# EAGLE library part HSS_PINS (library MISC)
Requires 8 x
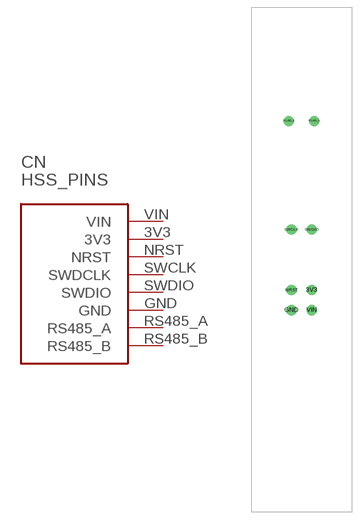
[diagram p9: symbol with the pads of HSS_PINS; footprint HSS_PINS]

Designator prefix CN

## HSS_PINS (VALUE: HSS Pins)  [HSS_PINS]
3V3  3V3
GND  GND
NRST  NRST
RS485_A  RS485_A
RS485_B  RS485_B
SWCLK  SWDCLK
SWDIO  SWDIO
VIN  VIN

## Footprint HSS_PINS (pad centres in mm)
drill 0.8 pad 2: 3V3 2,-6; GND -2,-10; NRST -2,-6; RS485_A 2.5,27.5; RS485_B -2.5,27.5; SWCLK -2,6; SWDIO 2,6; VIN 2,-10